# EAGLE library part INA240A*? (library kiks-ic)
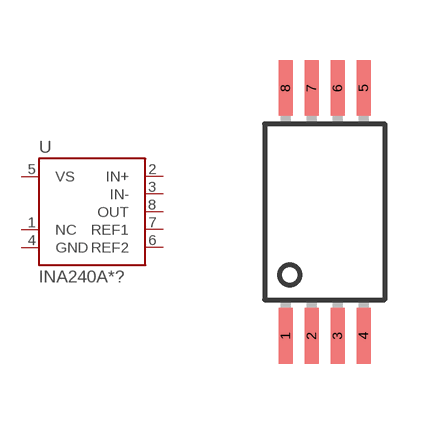
[diagram p1: symbol with the pads of TSSOP8; footprint TSSOP8]

Designator prefix U

## INA240A1 (GAIN: 20), INA240A2 (GAIN: 50), INA240A3 (GAIN: 100), INA240A4 (GAIN: 200)  [TSSOP8]
1  NC  nc
2  IN+  in
3  IN-  in
4  GND  in
5  VS  in
6  REF2  in
7  REF1  in
8  OUT  out

## Footprint TSSOP8 (pad centres in mm)
smd 0.35 x 1.4: 1 -0.975,-3.1; 2 -0.325,-3.1; 3 0.325,-3.1; 4 0.975,-3.1; 5 0.975,3.1; 6 0.325,3.1; 7 -0.325,3.1; 8 -0.975,3.1